# EAGLE library part 7SEG_DISP_KCDA04-123 (library 000_nl2)
Kingbright Dual 7-Segment LED Display, 1, 10.16 mm Surface Mount KINGBRIGHT KCDA04-123 7-Segment LED Display, Mechanically Rugged, 2, 10.16 mm, Green, Common Anode, 4.1 mcd, 20 mA http://www.farnell.com/datasheets/1776521.pdf KCDA04-123 http://uk.farnell.com/kingbright/kcda04-123/display-seven-segment-10-16mm/dp/2373417 http://www.farnell.com/datasheets/1776537.pdf
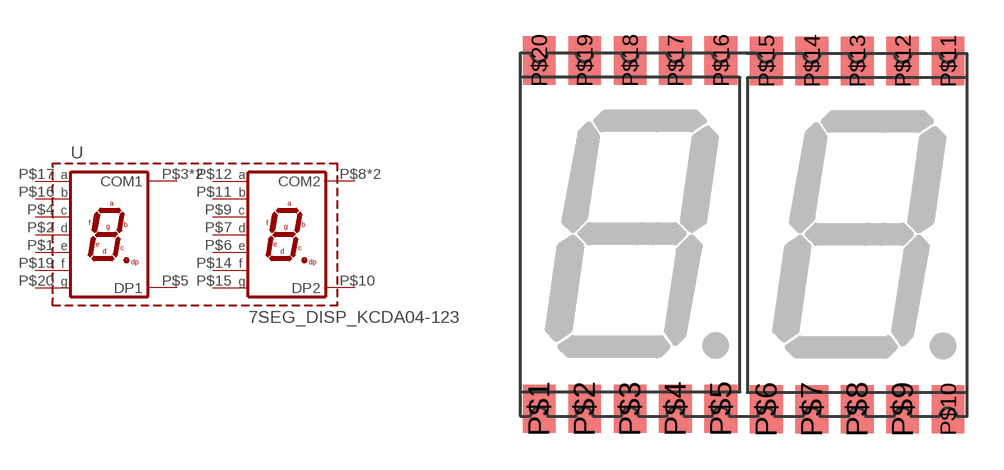
[diagram p36: symbol with the pads of KCDA04-123; footprint KCDA04-123]

Designator prefix -

## 7SEG_DISP_KCDA04-123  [KCDA04-123]
P$1  E1  pas
P$2  D1  pas
P$3  COM1  pas
P$4  C1  pas
P$5  DP1  pas
P$6  E2  pas
P$7  D2  pas
P$8  COM2  pas
P$9  C2  pas
P$10  DP2  pas
P$11  B2  pas
P$12  A2  pas
P$13  COM2  pas
P$14  F2  pas
P$15  G2  pas
P$16  B1  pas
P$17  A1  pas
P$18  COM1  pas
P$19  F1  pas
P$20  G1  pas

## Footprint KCDA04-123 (pad centres in mm)
KINGBRIGHT Dual LED DISPLAY, NUM 10.16MM Surface Mount 7 Segment KCSA04-123 http://www.farnell.com/datasheets/1776521.pdf
smd 1.35 x 2: P$1 0.79,0.3; P$2 2.67,0.3; P$3 4.55,0.3; P$4 6.43,0.3; P$5 8.31,0.3; P$6 10.19,0.28; P$7 12.07,0.28; P$8 13.95,0.28; P$9 15.83,0.28; P$10 17.71,0.28; P$11 17.71,14.68; P$12 15.83,14.68; P$13 13.95,14.68; P$14 12.07,14.68; P$15 10.19,14.68; P$16 8.31,14.7; P$17 6.43,14.7; P$18 4.55,14.7; P$19 2.67,14.7; P$20 0.79,14.7